# Altium schematic symbol library SI2302.SchLib: 1 symbol
Pins are listed as number, name and electrical type; pins without a type are passive.

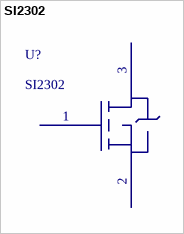
[diagram p0: symbol SI2302]

## SI2302
designator U?
footprint SI2302
footprint SOT103P280X122-3N (SOT23, 3-Leads, Body 3.0x2.8mm (max), Pitch 1.03mm, IPC Medium Density)
pins: 1, 2, 3